# EAGLE library part DRV8301DCA (library DRV8301DCA)
3-Phase Brushless Motor Pre-Driver with Dual Current Sense Amps and Buck Converter (PWM Ctrl w/ SPI) Source: Datasheet <http://www.ti.com/lit/ds/symlink/drv8301.pdf>
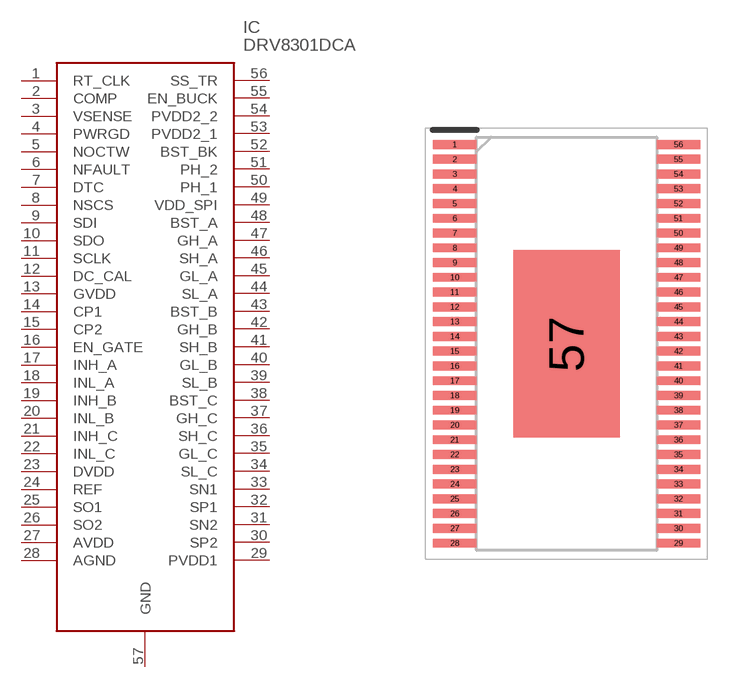
[diagram p0: symbol with the pads of SOP50P810X120-57N; footprint SOP50P810X120-57N]

Designator prefix IC

## DRV8301DCA (Arrow_Part_Number: DRV8301DCA; Arrow_Price-Stock: https://www.arrow.com/en/products/drv8301dca/texas-instruments; Description: 3-Phase Brushless Motor Pre-Driver with Dual Current Sense Amps and Buck Converter (PWM Ctrl w/ SPI); Height: 1.2mm; Manufacturer_Name: Texas Instruments; Manufacturer_Part_Number: DRV8301DCA; Mouser_Part_Number: 595-DRV8301DCA; Mouser_Price-Stock: https://www.mouser.co.uk/ProductDetail/Texas-Instruments/DRV8301DCA/?qs=SMj%252Bbyv09TxbNFelDWMY6Q%3D%3D)  [SOP50P810X120-57N]
1  RT_CLK
2  COMP
3  VSENSE
4  PWRGD
5  NOCTW
6  NFAULT
7  DTC
8  NSCS
9  SDI
10  SDO
11  SCLK
12  DC_CAL
13  GVDD
14  CP1
15  CP2
16  EN_GATE
17  INH_A
18  INL_A
19  INH_B
20  INL_B
21  INH_C
22  INL_C
23  DVDD
24  REF
25  SO1
26  SO2
27  AVDD
28  AGND
29  PVDD1
30  SP2
31  SN2
32  SP1
33  SN1
34  SL_C
35  GL_C
36  SH_C
37  GH_C
38  BST_C
39  SL_B
40  GL_B
41  SH_B
42  GH_B
43  BST_B
44  SL_A
45  GL_A
46  SH_A
47  GH_A
48  BST_A
49  VDD_SPI
50  PH_1
51  PH_2
52  BST_BK
53  PVDD2_1
54  PVDD2_2
55  EN_BUCK
56  SS_TR
57  GND

## Footprint SOP50P810X120-57N (pad centres in mm)
DRV8301DCA_1
smd 1.475 x 0.3: 1 -3.788,6.75; 2 -3.788,6.25; 3 -3.788,5.75; 4 -3.788,5.25; 5 -3.788,4.75; 6 -3.788,4.25; 7 -3.788,3.75; 8 -3.788,3.25; 9 -3.788,2.75; 10 -3.788,2.25; 11 -3.788,1.75; 12 -3.788,1.25; 13 -3.788,0.75; 14 -3.788,0.25; 15 -3.788,-0.25; 16 -3.788,-0.75; 17 -3.788,-1.25; 18 -3.788,-1.75; 19 -3.788,-2.25; 20 -3.788,-2.75; 21 -3.788,-3.25; 22 -3.788,-3.75; 23 -3.788,-4.25; 24 -3.788,-4.75; 25 -3.788,-5.25; 26 -3.788,-5.75; 27 -3.788,-6.25; 28 -3.788,-6.75; 29 3.788,-6.75; 30 3.788,-6.25; 31 3.788,-5.75; 32 3.788,-5.25; 33 3.788,-4.75; 34 3.788,-4.25; 35 3.788,-3.75; 36 3.788,-3.25; 37 3.788,-2.75; 38 3.788,-2.25; 39 3.788,-1.75; 40 3.788,-1.25; 41 3.788,-0.75; 42 3.788,-0.25; 43 3.788,0.25; 44 3.788,0.75; 45 3.788,1.25; 46 3.788,1.75; 47 3.788,2.25; 48 3.788,2.75; 49 3.788,3.25; 50 3.788,3.75; 51 3.788,4.25; 52 3.788,4.75; 53 3.788,5.25; 54 3.788,5.75; 55 3.788,6.25; 56 3.788,6.75
smd 3.61 x 6.35: 57 0,0